# Altium footprint library PcbLib2.PcbLib: 2 footprints
Each footprint in its own frame and in the unit in brackets; x right, y up, seen from the top. Pads: shape width x height; smd on the part's side, far side on the other; paste and mask are expansions set on the pad; w line width, h text height; cw(c..) or ccw(c..) is an arc to the next point about the centre after c.
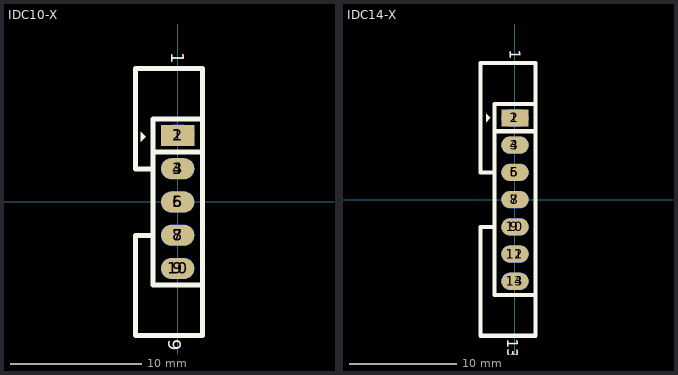
[diagram p0: the footprints below, top view; thin cyan lines are the x and y axes]

## IDC10-X [mm]
pads (10):
  rect 2.54x1.6 smd: 1(0,5.08)
  oval 2.54x1.6 smd far side: 2(0,5.08) 4(0,2.54) 6(0,0) 8(0,-2.54) 10(0,-5.08)
  oval 2.54x1.6 smd: 3(0,2.54) 5(0,0) 7(0,-2.54) 9(0,-5.08)
Top Overlay:
  region: -2.804,5.378 -2.804,4.616 -2.423,4.997
  lines w0.381: -3.234,-10.185 1.905,-10.185 1.905,10.19 -3.23,10.19 -3.23,2.515 -1.905,2.515 ; -3.23,-10.19 -3.23,-2.565 -1.905,-2.565 ; -1.905,3.81 1.905,3.81 ; -1.905,-6.35 -1.905,6.35 1.905,6.35 1.905,-6.35 -1.905,-6.35
  text "9" at -0.711,-10.465 h1.02
  text "1" at -0.508,11.43 h1.02
Bottom Overlay:
  lines w0.381: -3.175,-6.35 -3.175,10.16 ; -3.175,0 -3.175,-10.16 1.905,-10.16 1.905,10.16 -3.175,10.16 ; -3.175,5.08 -3.175,10.16 ; -1.905,-6.35 -1.905,6.35 1.905,6.35 1.905,-6.35 -1.905,-6.35
  text "2" at -0.508,11.557 h1.02
  text "10" at -0.635,-10.414 h1.02
3D body "IDC2.54-10P.STEP": height 3.59, standoff -5.26, extent -0.762,-10.16 11.408,10.16

## IDC14-X [mm]
pads (14):
  rect 2.54x1.6 smd: 1(0,7.62)
  oval 2.54x1.6 smd far side: 2(0,7.62) 4(0,5.08) 6(0,2.54) 8(0,0) 10(0,-2.54) 12(0,-5.08) 14(0,-7.62)
  oval 2.54x1.6 smd: 3(0,5.08) 5(0,2.54) 7(0,0) 9(0,-2.54) 11(0,-5.08) 13(0,-7.62)
Top Overlay:
  region: -2.667,8.001 -2.667,7.239 -2.286,7.62
  lines w0.381: -1.905,-2.54 -3.205,-2.54 -3.205,-12.7 1.905,-12.7 1.905,12.755 -3.205,12.755 -3.205,2.54 -1.905,2.54 ; -1.905,6.375 1.905,6.375 ; -1.905,-8.89 1.905,-8.89 1.905,8.915 -1.905,8.915 -1.905,-8.89
  text "13" at -0.711,-13.005 h1.02
  text "1" at -0.508,13.97 h1.02
Bottom Overlay:
  lines w0.381: -3.175,-8.89 -3.175,8.915 ; -3.175,-2.54 -3.175,-12.7 1.905,-12.7 1.905,12.755 -3.175,12.755 -3.175,2.54 ; 1.88,8.89 ccw(c1.88,8.915) 1.905,8.915 ; -1.905,-8.89 -1.905,8.89 1.905,8.89 1.905,-8.89 -1.905,-8.89
  text "2" at -0.508,14.097 h1.02
  text "14" at -0.762,-12.954 h1.02
3D body "IDC2.54-14P.STEP": height 3.59, standoff -5.26, extent -0.762,-12.573 11.408,12.827